# Altium schematic symbol library SCH - POWER - SWITCHMODE - TI TPS613221ADBV.SchLib: 1 symbol
Pins are listed as number, name and electrical type; pins without a type are passive.

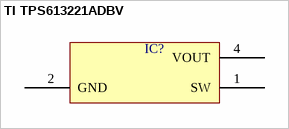
[diagram p0: symbol TI TPS613221ADBV]

## TI TPS613221ADBV
designator IC?  (value not drawn)
pins: 1 SW, 2 GND, 4 VOUT